# EAGLE library part BME680 (library CarTalkImu)
SENSOR Gas, Humidity, Pressure, Temperature Sensor, I²C, SPI Output
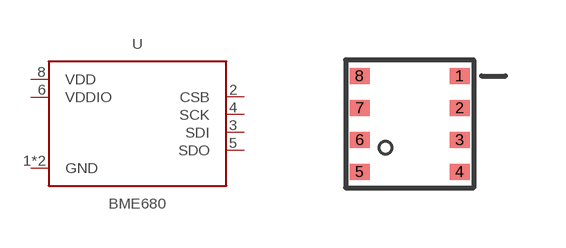
[diagram p5: symbol with the pads of BME-DFN8; footprint BME-DFN8]

Designator prefix -

## BME680 (MFG: Bosch Sensortec; MPN: BME680; PN-DK: 828-1077-1-ND)  [BME-DFN8]
1  GND
2  CSB
3  SDI
4  SCK
5  SDO
6  VDDIO
7  GND
8  VDD

## Footprint BME-DFN8 (pad centres in mm)
smd 0.5 x 0.4: 1 1.25,1.2; 2 1.25,0.4; 3 1.25,-0.4; 4 1.25,-1.2; 5 -1.25,-1.2; 6 -1.25,-0.4; 7 -1.25,0.4; 8 -1.25,1.2